# Altium schematic symbol library SM2S-IMX.SchLib: 1 symbol
Pins are listed as number, name and electrical type; pins without a type are passive.

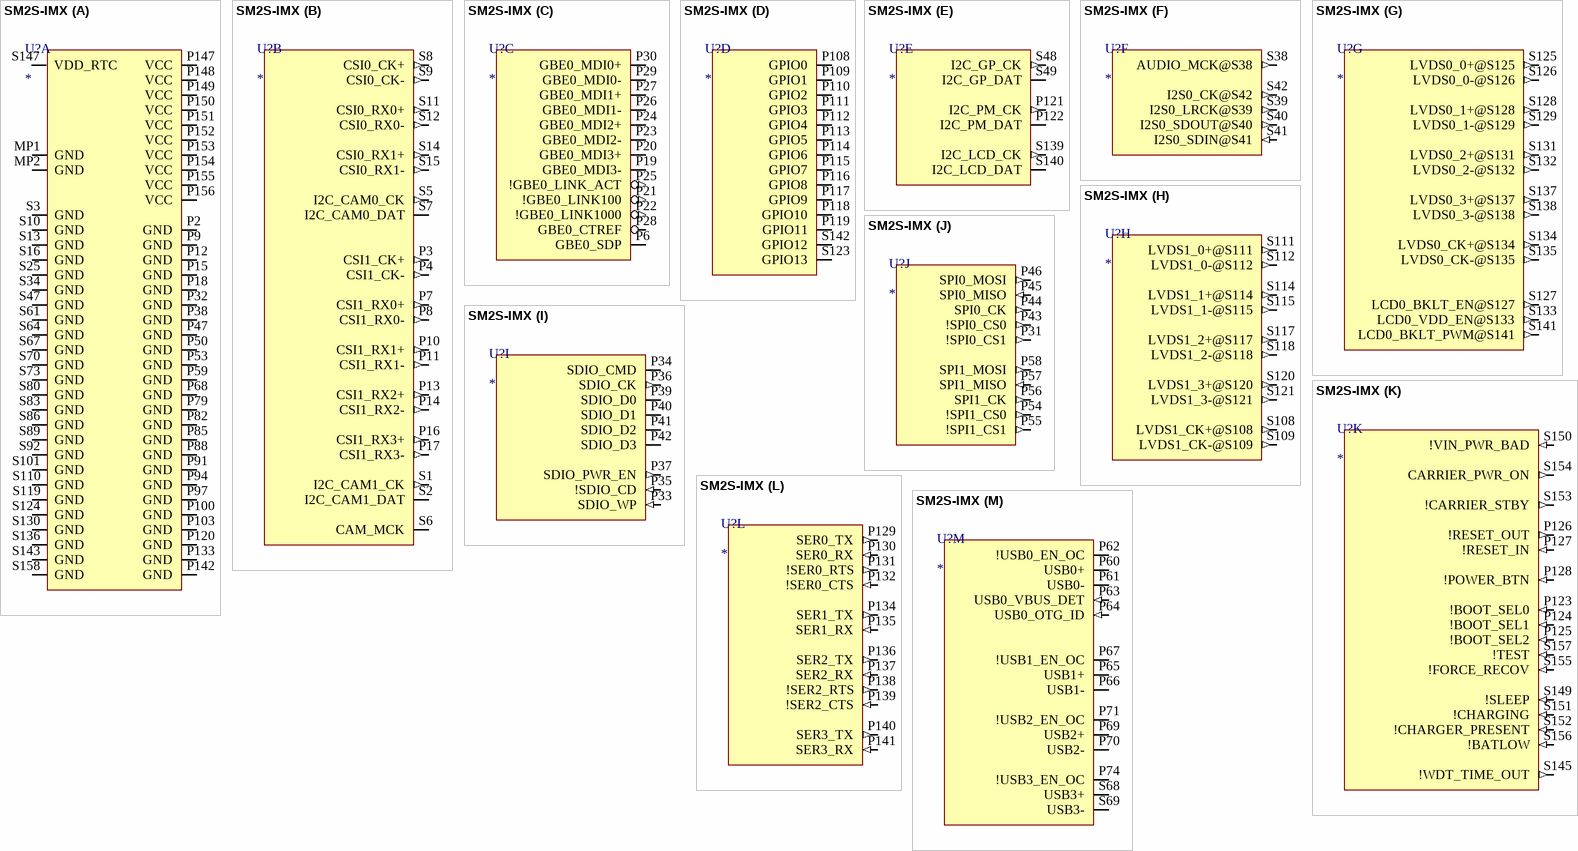
[diagram p0: symbol SM2S-IMX]

## SM2S-IMX
designator U?
Value: *
part A pins: MP1 GND (power), MP2 GND (power), P2 GND (power), P9 GND (power), P12 GND (power), P15 GND (power), P18 GND (power), P32 GND (power), P38 GND (power), P47 GND (power), P50 GND (power), P53 GND (power), P59 GND (power), P68 GND (power), P79 GND (power), P82 GND (power), P85 GND (power), P88 GND (power), P91 GND (power), P94 GND (power), P97 GND (power), P100 GND (power), P103 GND (power), P120 GND (power), P133 GND (power), P142 GND (power), P147 VCC (power), P148 VCC (power), P149 VCC (power), P150 VCC (power), P151 VCC (power), P152 VCC (power), P153 VCC (power), P154 VCC (power), P155 VCC (power), P156 VCC (power), S3 GND (power), S10 GND (power), S13 GND (power), S16 GND (power), S25 GND (power), S34 GND (power), S47 GND (power), S61 GND (power), S64 GND (power), S67 GND (power), S70 GND (power), S73 GND (power), S80 GND (power), S83 GND (power), S86 GND (power), S89 GND (power), S92 GND (power), S101 GND (power), S110 GND (power), S119 GND (power), S124 GND (power), S130 GND (power), S136 GND (power), S143 GND (power), S147 VDD_RTC (power), S158 GND (power)
part B pins: P3 CSI1_CK+ (out), P4 CSI1_CK- (out), P7 CSI1_RX0+ (out), P8 CSI1_RX0- (out), P10 CSI1_RX1+ (out), P11 CSI1_RX1- (out), P13 CSI1_RX2+ (out), P14 CSI1_RX2- (out), P16 CSI1_RX3+ (out), P17 CSI1_RX3- (out), S1 I2C_CAM1_CK (out), S2 I2C_CAM1_DAT (io), S5 I2C_CAM0_CK (out), S6 CAM_MCK (io), S7 I2C_CAM0_DAT (io), S8 CSI0_CK+ (out), S9 CSI0_CK- (out), S11 CSI0_RX0+ (out), S12 CSI0_RX0- (out), S14 CSI0_RX1+ (out), S15 CSI0_RX1- (out)
part C pins: P6 GBE0_SDP (io), P19 GBE0_MDI3- (io), P20 GBE0_MDI3+ (io), P21 !GBE0_LINK100 (out), P22 !GBE0_LINK1000 (out), P23 GBE0_MDI2- (io), P24 GBE0_MDI2+ (io), P25 !GBE0_LINK_ACT (out), P26 GBE0_MDI1- (io), P27 GBE0_MDI1+ (io), P28 GBE0_CTREF (power), P29 GBE0_MDI0- (io), P30 GBE0_MDI0+ (io)
part D pins: P108 GPIO0 (io), P109 GPIO1 (io), P110 GPIO2 (io), P111 GPIO3 (io), P112 GPIO4 (io), P113 GPIO5 (io), P114 GPIO6 (io), P115 GPIO7 (io), P116 GPIO8 (io), P117 GPIO9 (io), P118 GPIO10 (io), P119 GPIO11 (io), S123 GPIO13 (io), S142 GPIO12 (io)
part E pins: P121 I2C_PM_CK (out), P122 I2C_PM_DAT (io), S48 I2C_GP_CK (out), S49 I2C_GP_DAT (io), S139 I2C_LCD_CK (out), S140 I2C_LCD_DAT (io)
part F pins: S38 AUDIO_MCK@S38 (out), S39 I2S0_LRCK@S39 (out), S40 I2S0_SDOUT@S40 (out), S41 I2S0_SDIN@S41 (in), S42 I2S0_CK@S42 (out)
part G pins: S125 LVDS0_0+@S125 (out), S126 LVDS0_0-@S126 (out), S127 LCD0_BKLT_EN@S127 (out), S128 LVDS0_1+@S128 (out), S129 LVDS0_1-@S129 (out), S131 LVDS0_2+@S131 (out), S132 LVDS0_2-@S132 (out), S133 LCD0_VDD_EN@S133 (out), S134 LVDS0_CK+@S134 (out), S135 LVDS0_CK-@S135 (out), S137 LVDS0_3+@S137 (out), S138 LVDS0_3-@S138 (out), S141 LCD0_BKLT_PWM@S141 (out)
part H pins: S108 LVDS1_CK+@S108 (out), S109 LVDS1_CK-@S109 (out), S111 LVDS1_0+@S111 (out), S112 LVDS1_0-@S112 (out), S114 LVDS1_1+@S114 (out), S115 LVDS1_1-@S115 (out), S117 LVDS1_2+@S117 (out), S118 LVDS1_2-@S118 (out), S120 LVDS1_3+@S120 (out), S121 LVDS1_3-@S121 (out)
part I pins: P33 SDIO_WP (in), P34 SDIO_CMD (io), P35 !SDIO_CD (in), P36 SDIO_CK (out), P37 SDIO_PWR_EN (out), P39 SDIO_D0 (io), P40 SDIO_D1 (io), P41 SDIO_D2 (io), P42 SDIO_D3 (io)
part J pins: P31 !SPI0_CS1 (out), P43 !SPI0_CS0 (out), P44 SPI0_CK (out), P45 SPI0_MISO (in), P46 SPI0_MOSI (out), P54 !SPI1_CS0 (out), P55 !SPI1_CS1 (out), P56 SPI1_CK (out), P57 SPI1_MISO (in), P58 SPI1_MOSI (out)
part K pins: P123 !BOOT_SEL0 (in), P124 !BOOT_SEL1 (in), P125 !BOOT_SEL2 (in), P126 !RESET_OUT (out), P127 !RESET_IN (in), P128 !POWER_BTN (in), S145 !WDT_TIME_OUT (out), S149 !SLEEP (in), S150 !VIN_PWR_BAD (in), S151 !CHARGING (in), S152 !CHARGER_PRESENT (in), S153 !CARRIER_STBY (out), S154 CARRIER_PWR_ON (out), S155 !FORCE_RECOV (in), S156 !BATLOW (in), S157 !TEST (in)
part L pins: P129 SER0_TX (out), P130 SER0_RX (in), P131 !SER0_RTS (out), P132 !SER0_CTS (in), P134 SER1_TX (out), P135 SER1_RX (in), P136 SER2_TX (out), P137 SER2_RX (in), P138 !SER2_RTS (out), P139 !SER2_CTS (in), P140 SER3_TX (out), P141 SER3_RX (in)
part M pins: P60 USB0+ (io), P61 USB0- (io), P62 !USB0_EN_OC (io), P63 USB0_VBUS_DET (in), P64 USB0_OTG_ID (in), P65 USB1+ (io), P66 USB1- (io), P67 !USB1_EN_OC (io), P69 USB2+ (io), P70 USB2- (io), P71 !USB2_EN_OC (io), P74 !USB3_EN_OC (io), S68 USB3+ (io), S69 USB3- (io)